# EAGLE library part CME8000-TLPH (library c-max)
Triple frequency receiver IC WWVB, DCF77, JJY, MSF and HBG
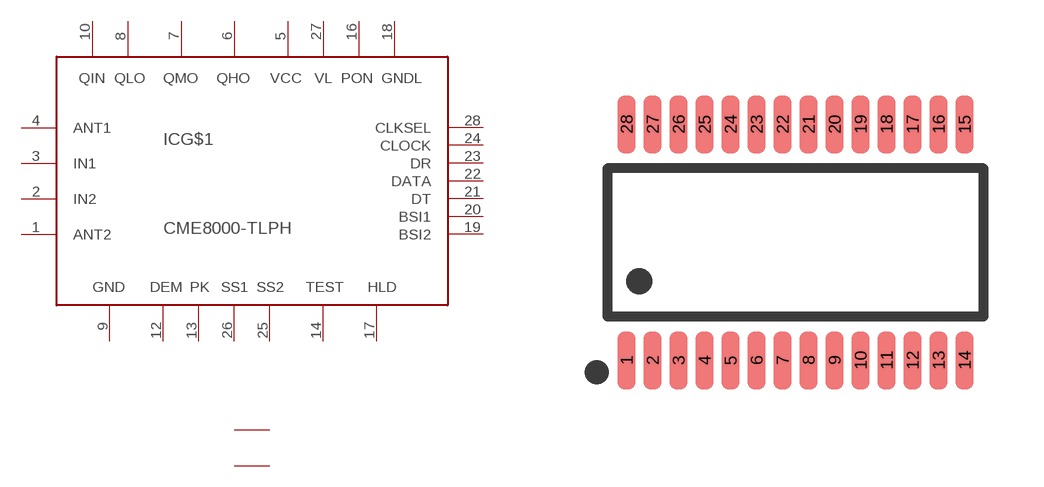
[diagram p1: symbol with the pads of SSO28; footprint SSO28]

Designator prefix IC; gates G$1=CME8000 N=CME8000-NC

## CME8000-TLPH  [SSO28]
1  G$1:ANT2  in
2  G$1:IN2  in
3  G$1:IN1  in
4  G$1:ANT1  in
5  G$1:VCC  pwr
6  G$1:QHOUT  out
7  G$1:QMOUT  out
8  G$1:QLOUT  out
9  G$1:GND  pwr
10  G$1:QIN
11  N:P$1  nc
12  G$1:DEM  out
13  G$1:PK  out
14  G$1:TEST  in
15  N:P$2  nc
16  G$1:PON  in
17  G$1:HLD  in
18  G$1:GNDL  pwr
19  G$1:BSI2  out
20  G$1:BSI1  out
21  G$1:DT  in
22  G$1:DATA  out
23  G$1:DR  out
24  G$1:CLOCK  in
25  G$1:SS2  in
26  G$1:SS1  in
27  G$1:VL  pwr
28  G$1:CLKSEL  in

## Footprint SSO28 (pad centres in mm)
SSO28 Package IPC7351 - TSOP65P645X130-28N
smd 0.45 x 1.45: 1 -4.225,-2.95; 2 -3.575,-2.95; 3 -2.925,-2.95; 4 -2.275,-2.95; 5 -1.625,-2.95; 6 -0.975,-2.95; 7 -0.325,-2.95; 8 0.325,-2.95; 9 0.975,-2.95; 10 1.625,-2.95; 11 2.275,-2.95; 12 2.925,-2.95; 13 3.575,-2.95; 14 4.225,-2.95; 15 4.225,2.95; 16 3.575,2.95; 17 2.925,2.95; 18 2.275,2.95; 19 1.625,2.95; 20 0.975,2.95; 21 0.325,2.95; 22 -0.325,2.95; 23 -0.975,2.95; 24 -1.625,2.95; 25 -2.275,2.95; 26 -2.925,2.95; 27 -3.575,2.95; 28 -4.225,2.95